# EAGLE library part 750051015 (library Wurth Electronics Midcom Inc V1-0)
Package Style: Standard VDSL Modul Mounting: SMD Pins: 16 pins Header: 068-0022 Windings Primary: Aux: Secondary: Best pinouts for production vary per application. Please contact Wurth Electronics Midcom, Inc. for assistance with your custom design. Datasheet: 750051015 <http://www.we-online.com/web/en/index.php/show/media/passive_components_-_custom_magnetics/pdf_doc_files/spec_sheets/7500/51015.pdf> Website: Wurth Electronics Midcom <http://www.we-online.com/midcom> Contact us Wurth Electronics Midcom, Inc. 121 Airport Dr. Watertown, SD 57201 Phone: (605) 886-4385 Fax: (605) 886-4486 E-Mail: midcom@we-online.com
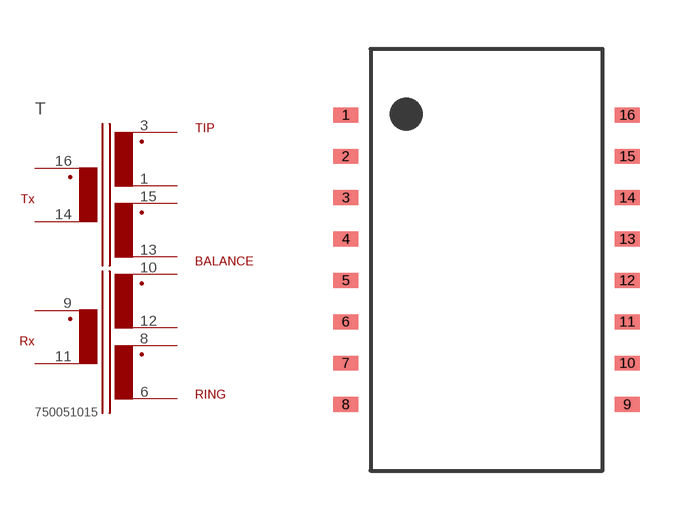
[diagram p33: symbol with the pads of 01STANDARD_VDSL_SMD_16PIN; footprint 01STANDARD_VDSL_SMD_16PIN]

Designator prefix T

## 750051015  [01STANDARD_VDSL_SMD_16PIN]
1  6  pas
3  5  pas
6  12  pas
8  11  pas
9  3  pas
10  9  pas
11  4  pas
12  10  pas
13  8  pas
14  2  pas
15  7  pas
16  1  pas

## Footprint 01STANDARD_VDSL_SMD_16PIN (pad centres in mm)
Package Style: Standard VDSL Mounting: SMD Pins: 16 070-2720
smd 0.762 x 0.457: 1 -4.318,4.445; 2 -4.318,3.175; 3 -4.318,1.905; 4 -4.318,0.635; 5 -4.318,-0.635; 6 -4.318,-1.905; 7 -4.318,-3.175; 8 -4.318,-4.445; 9 4.318,-4.445; 10 4.318,-3.175; 11 4.318,-1.905; 12 4.318,-0.635; 13 4.318,0.635; 14 4.318,1.905; 15 4.318,3.175; 16 4.318,4.445